# Altium footprint library SnapEDApcb.PcbLib: 1 footprints
Each footprint in its own frame and in the unit in brackets; x right, y up, seen from the top. Pads: shape width x height; smd on the part's side, far side on the other; paste and mask are expansions set on the pad; w line width, h text height; cw(c..) or ccw(c..) is an arc to the next point about the centre after c.
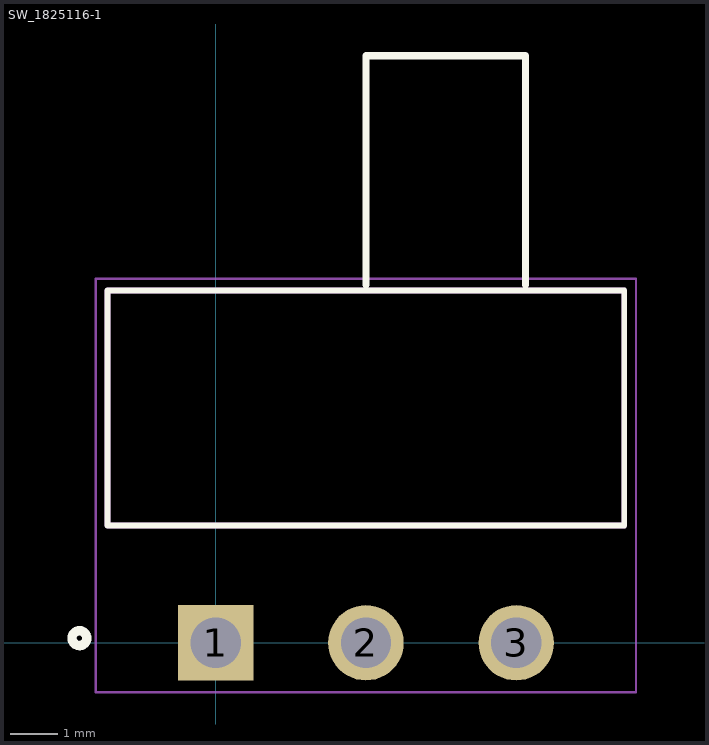
[diagram p0: the footprint, top view; thin cyan lines are the x and y axes]

## SW_1825116-1 [mm]
pads (3):
  rect 1.605x1.605 hole 1.07: 1(0,0)
  round 1.605 hole 1.07: 2(3.2,0) 3(6.4,0)
Top Overlay:
  circle w0.2: c-2.9,0.1 r0.158
  lines w0.127: 4.28,2.5 5.33,2.5 ; -2.3,2.5 8.7,2.5 8.7,7.5 -2.3,7.5 -2.3,2.5
  lines w0.152: 3.2,7.62 3.2,12.5 6.6,12.5 6.6,7.62
Mechanical 13:
  lines w0.127: -2.3,2.5 8.7,2.5 8.7,7.5 -2.3,7.5 -2.3,2.5
Mechanical 15:
  lines w0.05: -2.55,-1.05 8.95,-1.05 8.95,7.75 -2.55,7.75 -2.55,-1.05
3D body "1825116-1.stp": height 5.61, standoff -4.15, extent -2.325,-0.134 8.675,12.366